# Altium schematic symbol library MAX14871_Project.SchLib: 38 symbols (part 2 of 2)
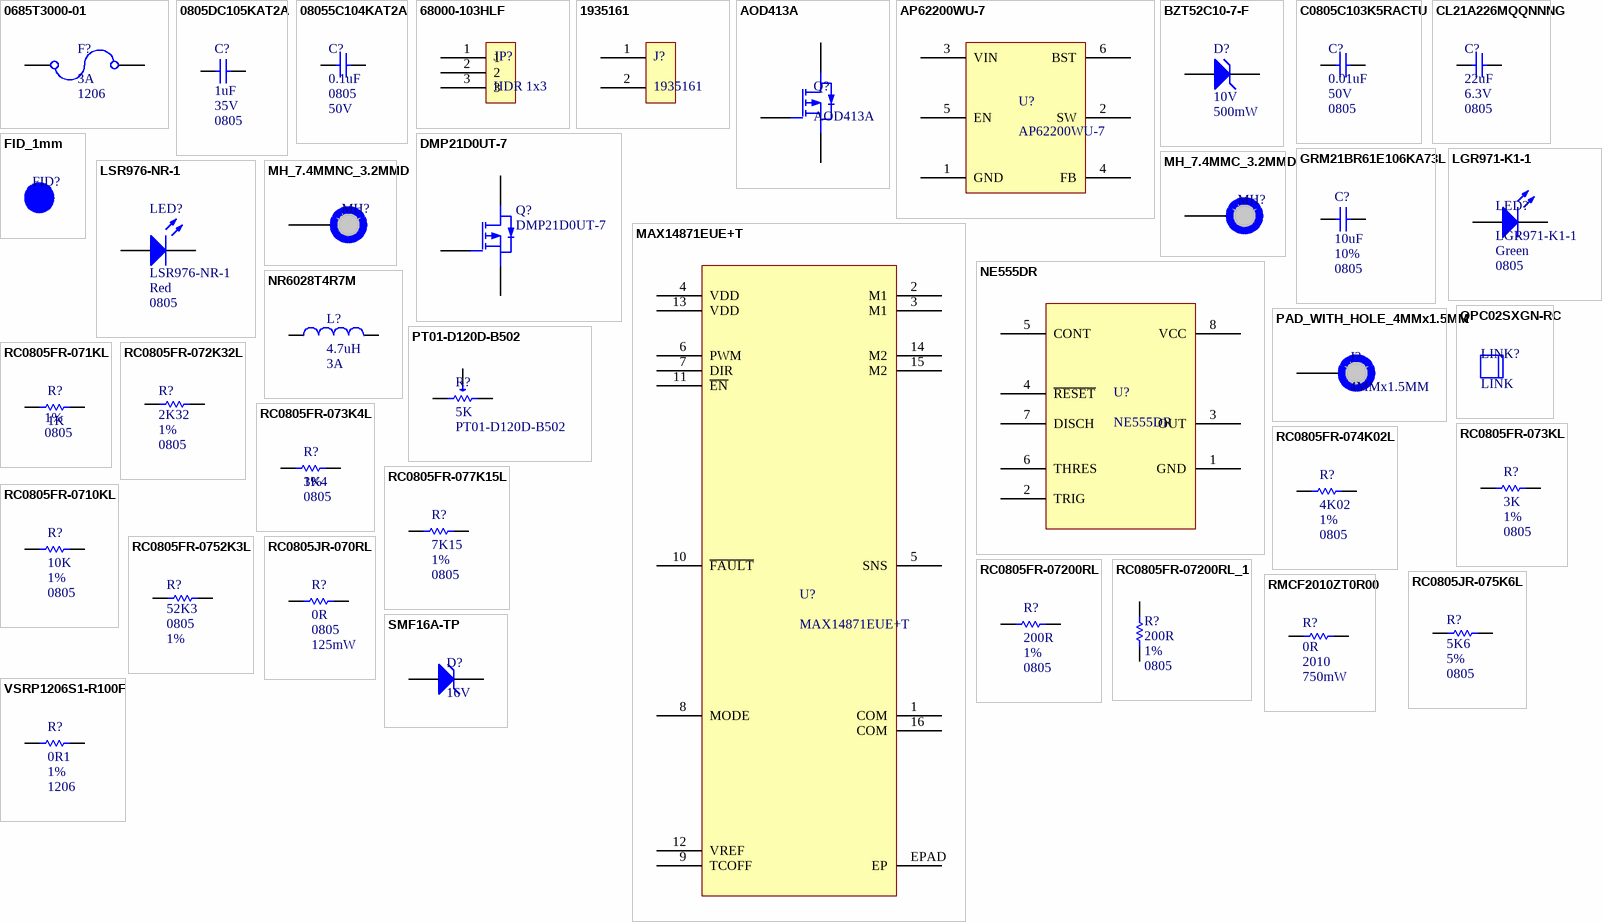
[diagram p1: symbols 0685T3000-01 to VSRP1206S1-R100F]

## RC0805FR-07200RL_1
designator R?, comment 200R  Tolerance: 1%  Case/Package: 0805
RES SMD 200 OHM 1% 1/8W 0805 ±100ppm/°C; Manufacturer: Yageo; Manufacturer Part Number: RC0805FR-07200RL; Voltage Rating (DC): 150V; Power Rating: 125mW; Supplier 1: Digi-Key; RoHS: Yes; Category: Chip SMD Resistors; Stock 1: 939589; Pricing 1: 1=0.10000, 10=0.03600, 100=0.01480, 1000=0.00666, 2500=0.00578 (USD); Mount: Surface Mount; Case Code (Metric): 2012; Case Code (Imperial): 0805; Size Code: 0805; Min Operating Temperature: -55°C; Max Operating Temperature: 155°C; Resistance: 200R; Packaging: Tape and Reel; Resistor Type: Thick Film; Temperature Coefficient: 100ppm/°C; Package Quantity: 1; Voltage Rating: 150V; Number of Terminations: 2; Termination: SMD/SMT; Max Power Dissipation: 125mW; Features: Moisture Resistant; Series: RC; Construction: Rectangular; Length: 2mm; Width: 0.049inch; Height: 0.024inch; Depth: 1.25mm; Lead Free: Lead Free; Military Standard: Not; RoHS Compliant: Yes; ComponentLink1URL: https://datasheet.ciiva.com/2519/pyu-r-int-thick-7-2519721.pdf?src-supplier=Digi-Key; ComponentLink1Description: https://datasheet.ciiva.com/2519/pyu-r-int-thick-7-2519721.pdf?src-supplier=Digi-Key; ComponentLink2URL: https://datasheet.ciiva.com/2519/pyu-r-int-thick-7-2519722.pdf?src-supplier=Digi-Key; ComponentLink2Description: https://datasheet.ciiva.com/2519/pyu-r-int-thick-7-2519722.pdf?src-supplier=Digi-Key; ComponentLink3URL: https://datasheet.ciiva.com/2519/pyu-r-int-thick-7-2519720.pdf?src-supplier=Digi-Key; ComponentLink3Description: https://datasheet.ciiva.com/2519/pyu-r-int-thick-7-2519720.pdf?src-supplier=Digi-Key; ComponentLink4URL: https://datasheet.ciiva.com/12667/rc0805-12667066.pdf?src-supplier=Mouser; ComponentLink4Description: https://datasheet.ciiva.com/12667/rc0805-12667066.pdf?src-supplier=Mouser; ComponentLink5URL: https://datasheet.ciiva.com/15189/getdatasheetpartid-327982-15189926.pdf?src-supplier=Verical; ComponentLink5Description: https://datasheet.ciiva.com/15189/getdatasheetpartid-327982-15189926.pdf?src-supplier=Verical; Supplier Part Number 1: 311-200CRCT-ND
footprint R0805
pins: 1, 2

## RC0805JR-070RL
designator R?, comment 0R  Case/Package: 0805  Max Power Dissipation: 125mW
JUMPER SMD 0 OHM 150V 1/8W 0805; Manufacturer: Yageo; Manufacturer Part Number: RC0805JR-070RL; Resistance: 0mR; Tolerance: 5%; Temperature Coefficient: 200ppm/°C; Supplier 1: Digi-Key; RoHS: Yes; Category: Chip SMD Resistors; Stock 1: 5377250; Pricing 1: 1=0.10000, 10=0.03100, 25=0.02280, 50=0.01720, 100=0.01280, 250=0.00972, 500=0.00778, 1000=0.00573 (USD); Number of Pins: 2; Contact Plating: Tin,Matte; Case Code (Metric): 2012; Size Code: 0805; Min Operating Temperature: -55°C; Max Operating Temperature: 155°C; Resistor Type: Thick Film; Power Rating: 125mW; Packaging: Tape and Reel; Voltage Rating: 150V; Voltage Rating (DC): 150V; Termination: SMD/SMT; Features: Moisture Resistant; Series: RC; Number of Terminations: 2; Construction: Rectangular; Technology: THICK FILM; Resistance Tolerance: 5%; Length: 2mm; Width: 1.25mm; Height: 0.5mm; Depth: 1.25mm; Radiation Hardening: No; RoHS Compliant: Yes; Military Standard: Not; Lead Free: Lead Free; ComponentLink1URL: https://datasheet.ciiva.com/11819/0900766b8106beab-11819430.pdf?src-supplier=RSComponents; ComponentLink1Description: https://datasheet.ciiva.com/11819/0900766b8106beab-11819430.pdf?src-supplier=RSComponents; ComponentLink2URL: https://datasheet.ciiva.com/7941/1738694-7941861.pdf?src-supplier=Element14; ComponentLink2Description: https://datasheet.ciiva.com/7941/1738694-7941861.pdf?src-supplier=Element14; ComponentLink3URL: https://datasheet.ciiva.com/7941/1738694-7941862.pdf?src-supplier=Element14; ComponentLink3Description: https://datasheet.ciiva.com/7941/1738694-7941862.pdf?src-supplier=Element14; ComponentLink4URL: https://datasheet.ciiva.com/7941/1738694-7941863.pdf?src-supplier=Element14; ComponentLink4Description: https://datasheet.ciiva.com/7941/1738694-7941863.pdf?src-supplier=Element14; ComponentLink5URL: https://datasheet.ciiva.com/15190/getdatasheetpartid-330685-15190028.pdf?src-supplier=Verical; ComponentLink5Description: https://datasheet.ciiva.com/15190/getdatasheetpartid-330685-15190028.pdf?src-supplier=Verical; Supplier Part Number 1: 311-0.0ARCT-ND; Case Code (Imperial): 0805
footprint R0805
pins: 1, 2

## RC0805JR-075K6L
designator R?, comment 5K6  Resistance Tolerance: 5%  Case/Package: 0805
RES SMD 5K6 OHM 5% 1/8W 0805  Thick Film ±100ppm/C Pad SMD T/R; Manufacturer: Yageo; Manufacturer Part Number: RC0805JR-075K6L; Resistance: 5.6kR; Temperature Coefficient: 100ppm/°C; Power Rating: 125mW; Voltage Rating: 150V; Supplier 1: Digi-Key; RoHS: Yes; Category: Chip SMD Resistors; Stock 1: 166799; Pricing 1: 1=0.100000, 10=0.032000, 100=0.013000, 1000=0.005840, 2500=0.005070 (USD); Contact Plating: Tin,Lead; Case Code (Metric): 2012; Case Code (Imperial): 0805; Size Code: 0805; Min Operating Temperature: -55°C; Max Operating Temperature: 155°C; Tolerance: 5%; Resistor Type: Thick Film; Package Quantity: 5000; Packaging: Tape and Reel; Number of Terminations: 2; Termination: SMD/SMT; Max Power Dissipation: 125mW; Features: Moisture Resistant; Series: RC; Construction: Rectangular; Length: 2mm; Width: 1.25mm; Height: 0.5mm; Depth: 1.25mm; Radiation Hardening: No; RoHS Compliant: Yes; Military Standard: Not; Lead Free: Lead Free; ComponentLink1URL: https://datasheet.ciiva.com/2519/pyu-r-int-thick-7-2519283.pdf?src-supplier=Digi-Key; ComponentLink1Description: https://datasheet.ciiva.com/2519/pyu-r-int-thick-7-2519283.pdf?src-supplier=Digi-Key; ComponentLink2URL: https://datasheet.ciiva.com/2519/pyu-r-int-thick-7-2519284.pdf?src-supplier=Digi-Key; ComponentLink2Description: https://datasheet.ciiva.com/2519/pyu-r-int-thick-7-2519284.pdf?src-supplier=Digi-Key; ComponentLink3URL: https://datasheet.ciiva.com/2519/pyu-r-int-thick-7-2519282.pdf?src-supplier=Digi-Key; ComponentLink3Description: https://datasheet.ciiva.com/2519/pyu-r-int-thick-7-2519282.pdf?src-supplier=Digi-Key; ComponentLink4URL: https://datasheet.ciiva.com/15190/getdatasheetpartid-348583-15190060.pdf?src-supplier=Verical; ComponentLink4Description: https://datasheet.ciiva.com/15190/getdatasheetpartid-348583-15190060.pdf?src-supplier=Verical; ComponentLink5URL: https://datasheet.ciiva.com/17086/rc0805-17086095.pdf?src-supplier=Future+Electronics; ComponentLink5Description: https://datasheet.ciiva.com/17086/rc0805-17086095.pdf?src-supplier=Future+Electronics; Supplier Part Number 1: 311-5.6KARCT-ND
footprint R0805
pins: 1, 2

## RMCF2010ZT0R00
designator R?, comment 0R  Case/Package: 2010  Power Rating: 750mW
Res Thick Film 2010 0 Ohm Molded SMD Automotive Plastic T/R; Manufacturer: Stackpole Electronics; Manufacturer Part Number: RMCF2010ZT0R00; Supplier 1: Digi-Key; RoHS: Yes; Category: Chip SMD Resistors; Stock 1: 436684; Pricing 1: 1=0.20000, 10=0.16700, 25=0.12120, 50=0.08780, 100=0.06510, 250=0.05000, 500=0.03940, 1000=0.02727 (USD); Mount: Surface Mount; Case Code (Metric): 5025; Case Code (Imperial): 2010; Contact Plating: Tin,Matte; Size Code: 2010; Min Operating Temperature: -55°C; Max Operating Temperature: 155°C; Packaging: Tape and Reel; Resistor Type: Thick Film; Number of Terminations: 2; Max Power Dissipation: 750mW; Features: Automotive AEC-Q200; Series: RMCF; Construction: Rectangular; Length: 0.197inch; Width: 0.098inch; Height: 0.028inch; Depth: 2.5mm; Radiation Hardening: No; Military Standard: Not; Lead Free: Lead Free; RoHS Compliant: Yes; ComponentLink1URL: http://components.arrow.com/part/dataview/55788137S308674N1174?src-supplier=Arrow+Electronics; ComponentLink1Description: http://components.arrow.com/part/dataview/55788137S308674N1174?src-supplier=Arrow+Electronics; ComponentLink2URL: https://www.seielect.com/catalog/SEI-Packaging.pdf?src-supplier=Digi-Key; ComponentLink2Description: https://www.seielect.com/catalog/SEI-Packaging.pdf?src-supplier=Digi-Key; ComponentLink3URL: https://www.seielect.com/Catalog/SEI-RMCF_RMCP.pdf?src-supplier=Digi-Key; ComponentLink3Description: https://www.seielect.com/Catalog/SEI-RMCF_RMCP.pdf?src-supplier=Digi-Key; ComponentLink4URL: https://www.seielect.com/catalog/SEI-RMCF_RMCP.pdf?src-supplier=Avnet; ComponentLink4Description: https://www.seielect.com/catalog/SEI-RMCF_RMCP.pdf?src-supplier=Avnet; ComponentLink5URL: http://www.seielect.com/Catalog/SEI-RMC.pdf?src-supplier=Future+Electronics; ComponentLink5Description: http://www.seielect.com/Catalog/SEI-RMC.pdf?src-supplier=Future+Electronics; ComponentLink6URL: https://www.verical.com/server-webapp/html/getDatasheet?partID=691632&src-supplier=Verical; ComponentLink6Description: https://www.verical.com/server-webapp/html/getDatasheet?partID=691632&src-supplier=Verical; Supplier Part Number 1: RMCF2010ZT0R00CT-ND; Resistance: 0R
footprint R2010
pins: 1, 2

## SMF16A-TP
designator D?, comment 16V
TVS DIODE 16VWM 26VC SOD123FL; Manufacturer: MCC; Manufacturer Part Number: SMF16A-TP; Direction: Unidirectional; Number of Unidirectional Channels: 1; Min Breakdown Voltage: 17.8V; Clamping Voltage: 26V; Peak Pulse Power: 200W; Power Line Protection: No; Max Breakdown Voltage: 19.7V; Leakage Current: 1uA; Element Configuration: Single; Peak Pulse Current: 7.7A; Diode Type: ZENER; Supplier 1: Digi-Key; RoHS: Yes; Category: TVS Diodes; Stock 1: 30285; Pricing 1: 1=0.43000, 10=0.32600, 100=0.20330, 500=0.13910, 1000=0.10700 (USD); Mount: Surface Mount; Number of Pins: 2; Min Operating Temperature: -65°C; Max Operating Temperature: 175°C; Packaging: Tape and Reel; Package Quantity: 1; Reverse Standoff Voltage: 16V; Power Dissipation: 200W; Resistor Type: Zener; Series: -; Clamping Voltage-Max: 26V; Length: 2.85mm; Depth: 1.8mm; Radiation Hardening: No; Lead Free: Lead Free; RoHS Compliant: Yes; ComponentLink1URL: https://datasheet.ciiva.com/6574/smf5-0170sod-123fl-6574110.pdf?src-supplier=Digi-Key; ComponentLink1Description: https://datasheet.ciiva.com/6574/smf5-0170sod-123fl-6574110.pdf?src-supplier=Digi-Key; ComponentLink2URL: https://datasheet.ciiva.com/6574/smf5-0170sod-123fl-6574111.pdf?src-supplier=Digi-Key; ComponentLink2Description: https://datasheet.ciiva.com/6574/smf5-0170sod-123fl-6574111.pdf?src-supplier=Digi-Key; Supplier Part Number 1: SMF16A-TPMSCT-ND; Working Voltage: 16V
footprint TVS_SOD123FL
pins: A, K

## VSRP1206S1-R100F
designator R?, comment 0R1  Tolerance: 1%  Package: 1206
RES SENSE SMD 0R1 OHM 1% 1W 1206; Manufacturer: Cyntec; Manufacturer Part Number: VSRP1206S1-R100F; Supplier 1: Digi-Key; RoHS: Yes; Category: Chip SMD Resistors; Stock 1: 23192; Pricing 1: 1=0.57000, 10=0.47700, 25=0.40920, 50=0.36820, 100=0.32040, 250=0.28632, 500=0.23180, 1000=0.18748 (USD); Supplier Part Number 1: 2037-VSRP1206S1-R100FCT-ND
footprint R1206
pins: 1, 2